# EAGLE library part 3-104-370 (library ds_con)
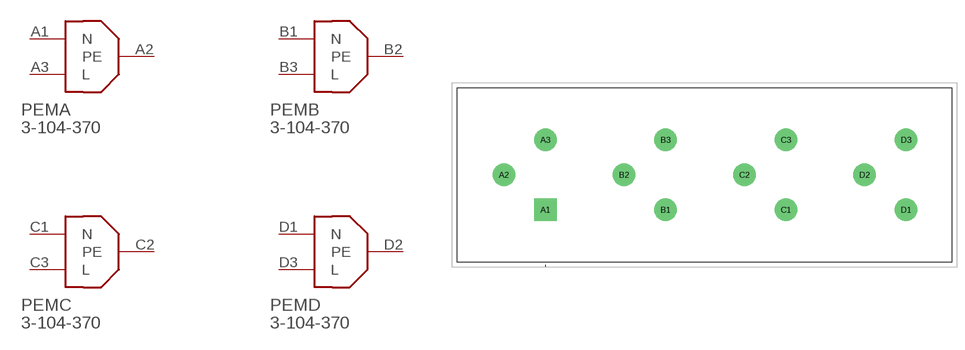
[diagram p11: symbol with the pads of 3-104-370; footprint 3-104-370]

Designator prefix PEM; gates A=3-104-370 B=3-104-370 C=3-104-370 D=3-104-370

## 3-104-370 (DESCRIPTION: Power Entry Connector Receptacle, Female Sockets Panel Mount, Snap-In; MANUFACTURER: SCHURTER Inc.; MPN: 3-104-370; ROHS: YES; VALUE: 3-104-370)  [3-104-370]
A1  A:N
A2  A:PE
A3  A:L
B1  B:N
B2  B:PE
B3  B:L
C1  C:N
C2  C:PE
C3  C:L
D1  D:N
D2  D:PE
D3  D:L

## Footprint 3-104-370 (pad centres in mm)
drill 3.2 pad 4.5 square: A1 -31.75,-7.62
drill 3.2 pad 4.5: A2 -40.05,-0.62; A3 -31.75,6.38; B1 -7.71,-7.62; B2 -16.01,-0.62; B3 -7.71,6.38; C1 16.33,-7.62; C2 8.03,-0.62; C3 16.33,6.38; D1 40.37,-7.62; D2 32.07,-0.62; D3 40.37,6.38